# Altium schematic symbol library Gigabit Ethernet.SchLib: 7 symbols
Pins are listed as number, name and electrical type; pins without a type are passive.

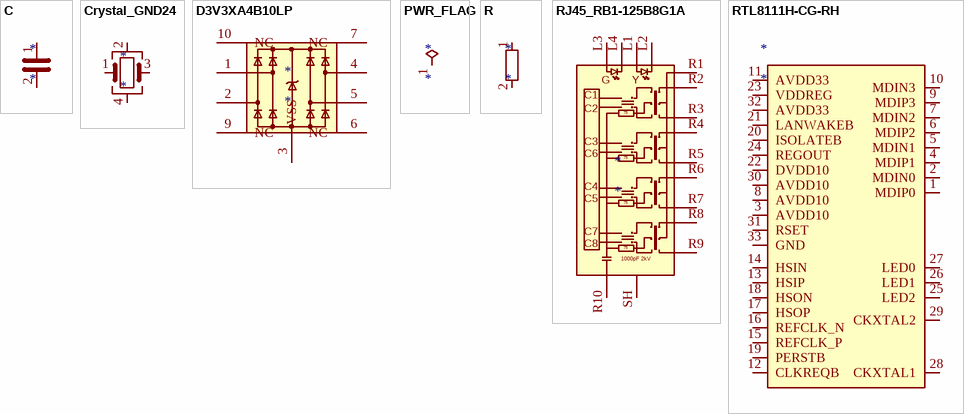
[diagram p0: symbols C to RTL8111H-CG-RH]

## C
designator *
pins: 1, 2

## Crystal_GND24
designator *
pins: 1, 2, 3, 4

## D3V3XA4B10LP
designator *
pins: 1, 2, 3 VSS, 4, 5, 6 NC, 7 NC, 8 VSS hidden, 9 NC, 10 NC

## PWR_FLAG
designator *  (graphical)
pins: 1

## R
designator *
pins: 1, 2

## RJ45_RB1-125B8G1A
designator *
pins: L1, L2, L3, L4, R1 CT, R2 TD1+, R3 TD1-, R4 TD2+, R5 TD2-, R6 TD3+, R7 TD3-, R8 TD4+, R9 TD4-, R10 GND, SH
text: G; Y; C1; C2; 75; C3; C6; C4; C5; C7; C8; 1000pF 2kV

## RTL8111H-CG-RH
designator *
pins: 1 MDIP0, 2 MDIN0, 3 AVDD10, 4 MDIP1, 5 MDIN1, 6 MDIP2, 7 MDIN2, 8 AVDD10, 9 MDIP3, 10 MDIN3, 11 AVDD33, 12 CLKREQB, 13 HSIP, 14 HSIN, 15 REFCLK_P, 16 REFCLK_N, 17 HSOP, 18 HSON, 19 PERSTB, 20 ISOLATEB, 21 LANWAKEB, 22 DVDD10, 23 VDDREG, 24 REGOUT, 25 LED2, 26 LED1, 27 LED0, 28 CKXTAL1, 29 CKXTAL2, 30 AVDD10, 31 RSET, 32 AVDD33, 33 GND